# Altium footprint library lab_11.PcbLib: 4 footprints
Each footprint in its own frame and in the unit in brackets; x right, y up, seen from the top. Pads: shape width x height; smd on the part's side, far side on the other; paste and mask are expansions set on the pad; w line width, h text height; cw(c..) or ccw(c..) is an arc to the next point about the centre after c.
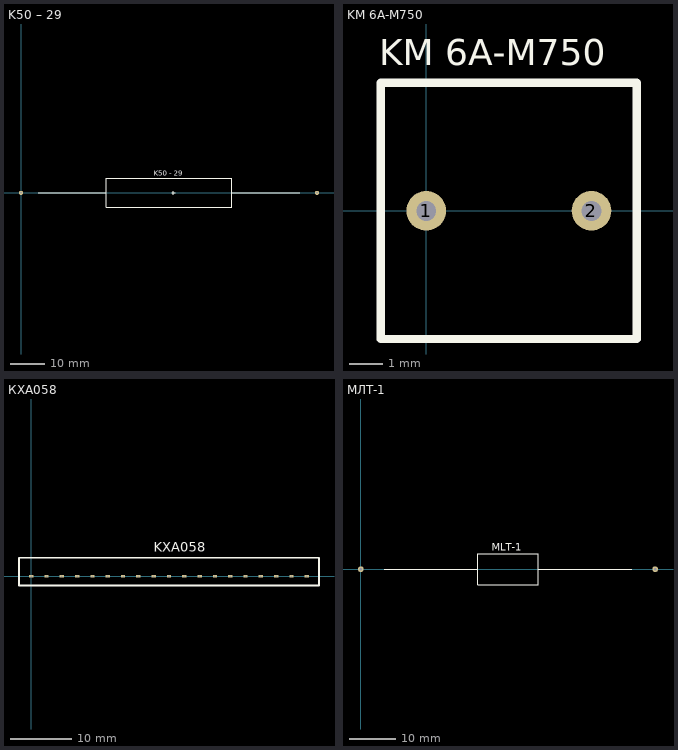
[diagram p0: the footprints below, top view; thin cyan lines are the x and y axes]

## K50 – 29 [mm] "The capacitor with known capacity (polarized)"
height 9
pads (2):
  round 1.2 hole 0.5: 1(0,0) 2(87,0)
Top Overlay:
  lines w0.2: 44.262,0 45.278,0 ; 44.77,-0.508 44.77,0.508
  lines w0.254: 5,0 25,0 ; 82,0 62,0 ; 25,0 25,-4.25 62,-4.25 62,0 ; 25,0 25,4.25 62,4.25 62,0
  text "K50 - 29" at 39,5 h1.52
3D body "K50 – 29.stp": height 9.55, standoff -5.13, extent -0.246,-4.25 87.263,4.25

## KM 6А-М750 [mm] "The capacitor with known capacity"
height 31
pads (2):
  round 1.2 hole 0.6: 1(0,0) 2(5,0)
Top Overlay:
  lines w0.254: -1.375,-3.875 6.375,-3.875 6.375,3.875 -1.375,3.875 -1.375,-3.875
  text "KM 6A-M750" at -1.425,4.4 h0.8
3D body "KM 6А-М750.stp": height 8.5, standoff -22.5, extent -1.25,-3.75 6.25,3.75

## КХА058 [mm] "Analog chip (FM receiver)"
height 22
pads (19):
  rect 0.7x0.35 hole 0.25 square: 1(0,0) 2(2.5,0) 3(5,0) 4(7.5,0) 5(10,0) 6(12.5,0) 7(15,0) 8(17.5,0) 9(20,0) 10(22.5,0) 11(25,0) 12(27.5,0) 13(30,0) 14(32.5,0) 15(35,0) 16(37.5,0) 17(40,0) 18(42.5,0) 19(45,0)
Top Overlay:
  lines w0.254: -2,-1.5 -2,0 -2,3 47,3 47,-1.5 -2,-1.5
  text "KXA058" at 20,4 h1.52
3D body "КХА058.stp": height 18.63, standoff -3, extent -2,-0.75 47,3.75

## МЛТ-1 [mm] "Permanent resistor(0,125 W)"
height 7
pads (2):
  round 1.2 hole 0.6: 1(0,0) 2(63,0)
Top Overlay:
  lines w0.254: 5,0 25,0 ; 58,0 38,0 ; 25,0 25,-3.3 38,-3.3 38,0 ; 25,0 25,3.3 38,3.3 38,0
  text "MLT-1" at 28,4 h1.52
3D body "МЛТ-1.stp": height 7.6, standoff -2.7, extent -0.3,-3.3 63.3,3.3